# EAGLE library part HPH-12/30-D48 (library b0l2)
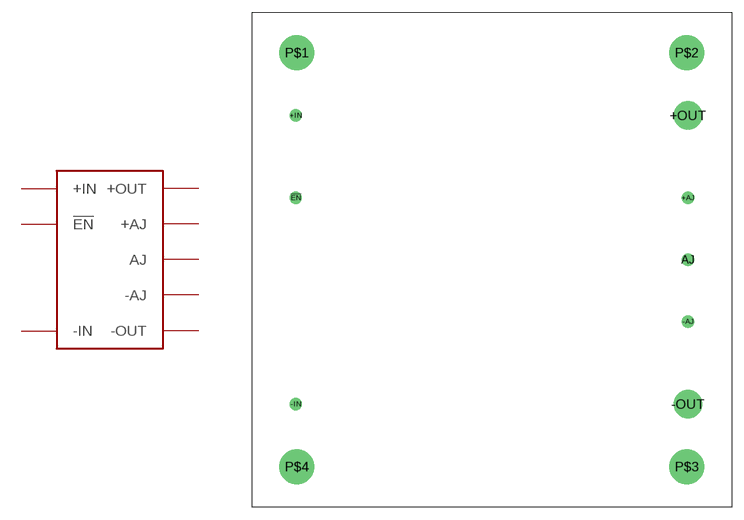
[diagram p0: symbol with the pads of CASE_C61; footprint CASE_C61]

Designator prefix -

## HPH-12/30-D48  [CASE_C61]
!EN  !EN
+AJ  +AJ
+IN  +IN
+OUT  +OUT
-AJ  -AJ
-IN  -IN
-OUT  -OUT
AJ  AJ

## Footprint CASE_C61 (pad centres in mm)
drill 1: !EN -24.13,7.62; +AJ 24.13,7.62; +IN -24.13,17.78; -AJ 24.13,-7.62; -IN -24.13,-17.78; AJ 24.13,0
drill 2.5: +OUT 24.13,17.78; -OUT 24.13,-17.78
drill 3.3: P$1 -24,25.5; P$2 24,25.5; P$3 24,-25.5; P$4 -24,-25.5